# Altium schematic symbol library Caps$.SchLib: 208 symbols (part 1 of 2)
Pins are listed as number, name and electrical type; pins without a type are passive.

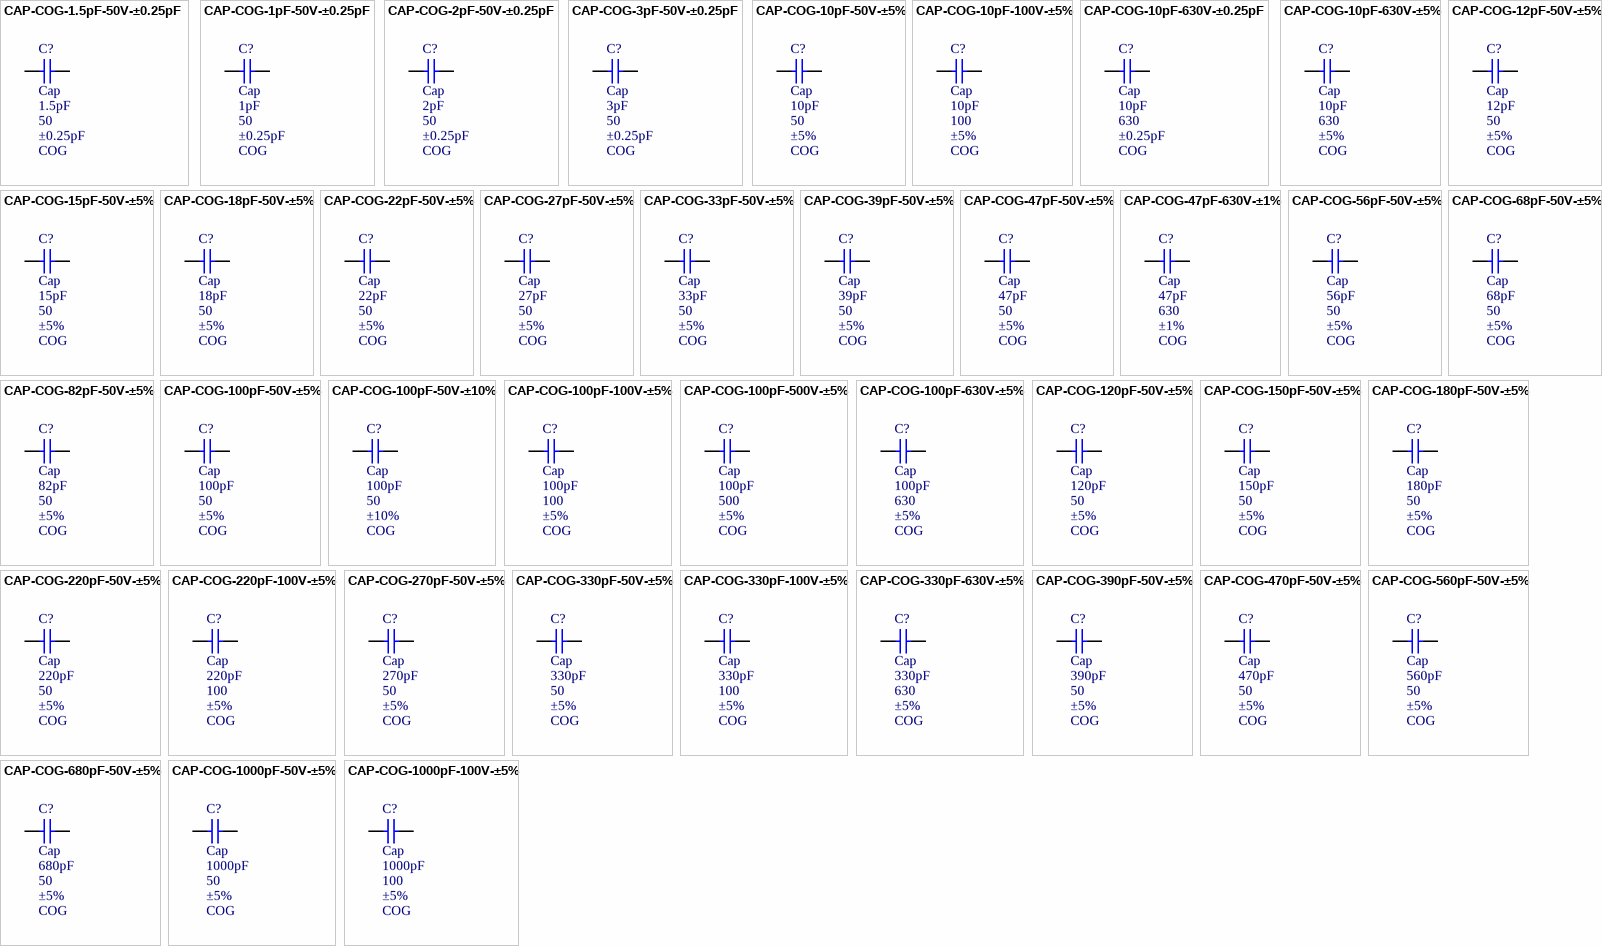
[diagram p0: symbols CAP-COG-1.5pF-50V-±0.25pF to CAP-COG-1000pF-100V-±5%]

## CAP-COG-1.5pF-50V-±0.25pF
designator C?, comment Cap  value 1.5pF  WV: 50  Tolerance: ±0.25pF  Type: COG
CAP CER 1.5pF 50v COG 0805; MPN: C0805C159C5GACTU; Name: CAP-COG-1.5pF-50V-±0.25pF; PN: 399-1105-1-ND; URL: http://www.digikey.ca/product-detail/en/C0805C159C5GACTU/399-1105-1-ND
footprint CAPC2012X09M
pins: 1, 2

## CAP-COG-1pF-50V-±0.25pF
designator C?, comment Cap  value 1pF  WV: 50  Tolerance: ±0.25pF  Type: COG
CAP CER 1pF 50v COG 0805; MPN: C0805C109C5GACTU; Name: CAP-COG-1pF-50V-±0.25pF; PN: 399-1104-1-ND; URL: http://www.digikey.ca/product-detail/en/C0805C109C5GACTU/399-1104-1-ND
footprint CAPC2012X09M
pins: 1, 2

## CAP-COG-2pF-50V-±0.25pF
designator C?, comment Cap  value 2pF  WV: 50  Tolerance: ±0.25pF  Type: COG
CAP CER 2pF 50v COG 0805; MPN: C0805C209C5GACTU; Name: CAP-COG-2pF-50V-±0.25pF; PN: 399-1106-1-ND; URL: http://www.digikey.ca/product-detail/en/C0805C209C5GACTU/399-1106-1-ND
footprint CAPC2012X09M
pins: 1, 2

## CAP-COG-3pF-50V-±0.25pF
designator C?, comment Cap  value 3pF  WV: 50  Tolerance: ±0.25pF  Type: COG
CAP CER 3pF 50v COG 0805; MPN: C0805C309C5GACTU; Name: CAP-COG-3pF-50V-±0.25pF; PN: 399-1107-1-ND; URL: http://www.digikey.ca/product-detail/en/C0805C309C5GACTU/399-1107-1-ND
footprint CAPC2012X09M
pins: 1, 2

## CAP-COG-10pF-50V-±5%
designator C?, comment Cap  value 10pF  WV: 50  Tolerance: ±5%  Type: COG
CAP CER 10pF 50v COG 0805; MPN: C0805C100J5GACTU; Name: CAP-COG-10pF-50V-±5%; PN: 399-1108-1-ND; URL: http://www.digikey.ca/product-detail/en/C0805C100J5GACTU/399-1108-1-ND
footprint CAPC2012X09M
pins: 1, 2

## CAP-COG-10pF-100V-±5%
designator C?, comment Cap  value 10pF  WV: 100  Tolerance: ±5%  Type: COG
CAP CER 10pF 100v COG 0805; MPN: C0805C100J1GACTU; Name: CAP-COG-10pF-100V-±5%; PN: 399-1109-1-ND; URL: http://www.digikey.ca/product-detail/en/C0805C100J1GACTU/399-1109-1-ND
footprint CAPC2012X09M
pins: 1, 2

## CAP-COG-10pF-630V-±0.25pF
designator C?, comment Cap  value 10pF  WV: 630  Tolerance: ±0.25pF  Type: COG
CAP CER 10pF 630v COG 0805; MPN: C0805C100CBGACTU; Name: CAP-COG-10pF-630V-±0.25pF; PN: 399-5538-1-ND; URL: http://www.digikey.ca/product-detail/en/C0805C100CBGACTU/399-5538-1-ND
footprint CAPC2012X09M
pins: 1, 2

## CAP-COG-10pF-630V-±5%
designator C?, comment Cap  value 10pF  WV: 630  Tolerance: ±5%  Type: COG
CAP CER 10pF 630v COG 0805; MPN: C0805C100JBGACTU; Name: CAP-COG-10pF-630V-±5%; PN: 399-5539-1-ND; URL: http://www.digikey.ca/product-detail/en/C0805C100JBGACTU/399-5539-1-ND
footprint CAPC2012X09M
pins: 1, 2

## CAP-COG-12pF-50V-±5%
designator C?, comment Cap  value 12pF  WV: 50  Tolerance: ±5%  Type: COG
CAP CER 12pF 50v COG 0805; MPN: C0805C120J5GACTU; Name: CAP-COG-12pF-50V-±5%; PN: 399-1110-1-ND; URL: http://www.digikey.ca/product-detail/en/C0805C120J5GACTU/399-1110-1-ND
footprint CAPC2012X09M
pins: 1, 2

## CAP-COG-15pF-50V-±5%
designator C?, comment Cap  value 15pF  WV: 50  Tolerance: ±5%  Type: COG
CAP CER 15pF 50v COG 0805; MPN: C0805C150J5GACTU; Name: CAP-COG-15pF-50V-±5%; PN: 399-1111-1-ND; URL: http://www.digikey.ca/product-detail/en/C0805C150J5GACTU/399-1111-1-ND
footprint CAPC2012X09M
pins: 1, 2

## CAP-COG-18pF-50V-±5%
designator C?, comment Cap  value 18pF  WV: 50  Tolerance: ±5%  Type: COG
CAP CER 18pF 50v COG 0805; MPN: C0805C180J5GACTU; Name: CAP-COG-18pF-50V-±5%; PN: 399-1112-1-ND; URL: http://www.digikey.ca/product-detail/en/C0805C180J5GACTU/399-1112-1-ND
footprint CAPC2012X09M
pins: 1, 2

## CAP-COG-22pF-50V-±5%
designator C?, comment Cap  value 22pF  WV: 50  Tolerance: ±5%  Type: COG
CAP CER 22pF 50v COG 0805; MPN: C0805C220J5GACTU; Name: CAP-COG-22pF-50V-±5%; PN: 399-1113-1-ND; URL: http://www.digikey.ca/product-detail/en/C0805C220J5GACTU/399-1113-1-ND
footprint CAPC2012X09M
pins: 1, 2

## CAP-COG-27pF-50V-±5%
designator C?, comment Cap  value 27pF  WV: 50  Tolerance: ±5%  Type: COG
CAP CER 27pF 50v COG 0805; MPN: C0805C270J5GACTU; Name: CAP-COG-27pF-50V-±5%; PN: 399-1114-1-ND; URL: http://www.digikey.ca/product-detail/en/C0805C270J5GACTU/399-1114-1-ND
footprint CAPC2012X09M
pins: 1, 2

## CAP-COG-33pF-50V-±5%
designator C?, comment Cap  value 33pF  WV: 50  Tolerance: ±5%  Type: COG
CAP CER 33pF 50v COG 0805; MPN: C0805C330J5GACTU; Name: CAP-COG-33pF-50V-±5%; PN: 399-1115-1-ND; URL: http://www.digikey.ca/product-detail/en/C0805C330J5GACTU/399-1115-1-ND
footprint CAPC2012X09M
pins: 1, 2

## CAP-COG-39pF-50V-±5%
designator C?, comment Cap  value 39pF  WV: 50  Tolerance: ±5%  Type: COG
CAP CER 39pF 50v COG 0805; MPN: C0805C390J5GACTU; Name: CAP-COG-39pF-50V-±5%; PN: 399-1116-1-ND; URL: http://www.digikey.ca/product-detail/en/C0805C390J5GACTU/399-1116-1-ND
footprint CAPC2012X09M
pins: 1, 2

## CAP-COG-47pF-50V-±5%
designator C?, comment Cap  value 47pF  WV: 50  Tolerance: ±5%  Type: COG
CAP CER 47pF 50v COG 0805; MPN: C0805C470J5GACTU; Name: CAP-COG-47pF-50V-±5%; PN: 399-1117-1-ND; URL: http://www.digikey.ca/product-detail/en/C0805C470J5GACTU/399-1117-1-ND
footprint CAPC2012X09M
pins: 1, 2

## CAP-COG-47pF-630V-±1%
designator C?, comment Cap  value 47pF  WV: 630  Tolerance: ±1%  Type: COG
CAP CER 47pF 630v COG 0805; MPN: C0805C470FBGACTU; Name: CAP-COG-47pF-630V-±1%; PN: 399-5537-1-ND; URL: http://www.digikey.ca/product-detail/en/C0805C470FBGACTU/399-5537-1-ND
footprint CAPC2012X09M
pins: 1, 2

## CAP-COG-56pF-50V-±5%
designator C?, comment Cap  value 56pF  WV: 50  Tolerance: ±5%  Type: COG
CAP CER 56pF 50v COG 0805; MPN: C0805C560J5GACTU; Name: CAP-COG-56pF-50V-±5%; PN: 399-1118-1-ND; URL: http://www.digikey.ca/product-detail/en/C0805C560J5GACTU/399-1118-1-ND
footprint CAPC2012X09M
pins: 1, 2

## CAP-COG-68pF-50V-±5%
designator C?, comment Cap  value 68pF  WV: 50  Tolerance: ±5%  Type: COG
CAP CER 68pF 50v COG 0805; MPN: C0805C680J5GACTU; Name: CAP-COG-68pF-50V-±5%; PN: 399-1119-1-ND; URL: http://www.digikey.ca/product-detail/en/C0805C680J5GACTU/399-1119-1-ND
footprint CAPC2012X09M
pins: 1, 2

## CAP-COG-82pF-50V-±5%
designator C?, comment Cap  value 82pF  WV: 50  Tolerance: ±5%  Type: COG
CAP CER 82pF 50v COG 0805; MPN: C0805C820J5GACTU; Name: CAP-COG-82pF-50V-±5%; PN: 399-1120-1-ND; URL: http://www.digikey.ca/product-detail/en/C0805C820J5GACTU/399-1120-1-ND
footprint CAPC2012X09M
pins: 1, 2

## CAP-COG-100pF-50V-±5%
designator C?, comment Cap  value 100pF  WV: 50  Tolerance: ±5%  Type: COG
CAP CER 100pF 50v COG 0805; MPN: C0805C101J5GACTU; Name: CAP-COG-100pF-50V-±5%; PN: 399-1122-1-ND; URL: http://www.digikey.ca/product-detail/en/C0805C101J5GACTU/399-1122-1-ND
footprint CAPC2012X09M
pins: 1, 2

## CAP-COG-100pF-50V-±10%
designator C?, comment Cap  value 100pF  WV: 50  Tolerance: ±10%  Type: COG
CAP CER 100pF 50v COG 0805; MPN: C0805C101K5GACTU; Name: CAP-COG-100pF-50V-±10%; PN: 399-1121-1-ND; URL: http://www.digikey.ca/product-detail/en/C0805C101K5GACTU/399-1121-1-ND
footprint CAPC2012X09M
pins: 1, 2

## CAP-COG-100pF-100V-±5%
designator C?, comment Cap  value 100pF  WV: 100  Tolerance: ±5%  Type: COG
CAP CER 100pF 100v COG 0805; MPN: C0805C101J1GACTU; Name: CAP-COG-100pF-100V-±5%; PN: 399-1123-1-ND; URL: http://www.digikey.ca/product-detail/en/C0805C101J1GACTU/399-1123-1-ND
footprint CAPC2012X09M
pins: 1, 2

## CAP-COG-100pF-500V-±5%
designator C?, comment Cap  value 100pF  WV: 500  Tolerance: ±5%  Type: COG
CAP CER 100pF 500v COG 0805; MPN: C0805C101JCGACTU; Name: CAP-COG-100pF-500V-±5%; PN: 399-5102-1-ND; URL: http://www.digikey.ca/product-detail/en/C0805C101JCGACTU/399-5102-1-ND
footprint CAPC2012X09M
pins: 1, 2

## CAP-COG-100pF-630V-±5%
designator C?, comment Cap  value 100pF  WV: 630  Tolerance: ±5%  Type: COG
CAP CER 100pF 630v COG 1210; MPN: C1210C101JBGACTU; Name: CAP-COG-100pF-630V-±5%; PN: 399-5546-1-ND; URL: http://www.digikey.ca/product-detail/en/C1210C101JBGACTU/399-5546-1-ND
footprint CAPC3225X25M
pins: 1, 2

## CAP-COG-120pF-50V-±5%
designator C?, comment Cap  value 120pF  WV: 50  Tolerance: ±5%  Type: COG
CAP CER 120pF 50v COG 0805; MPN: C0805C121J5GACTU; Name: CAP-COG-120pF-50V-±5%; PN: 399-1124-1-ND; URL: http://www.digikey.ca/product-detail/en/C0805C121J5GACTU/399-1124-1-ND
footprint CAPC2012X09M
pins: 1, 2

## CAP-COG-150pF-50V-±5%
designator C?, comment Cap  value 150pF  WV: 50  Tolerance: ±5%  Type: COG
CAP CER 150pF 50v COG 0805; MPN: C0805C151J5GACTU; Name: CAP-COG-150pF-50V-±5%; PN: 399-1125-1-ND; URL: http://www.digikey.ca/product-detail/en/C0805C151J5GACTU/399-1125-1-ND
footprint CAPC2012X09M
pins: 1, 2

## CAP-COG-180pF-50V-±5%
designator C?, comment Cap  value 180pF  WV: 50  Tolerance: ±5%  Type: COG
CAP CER 180pF 50v COG 0805; MPN: C0805C181J5GACTU; Name: CAP-COG-180pF-50V-±5%; PN: 399-1126-1-ND; URL: http://www.digikey.ca/product-detail/en/C0805C181J5GACTU/399-1126-1-ND
footprint CAPC2012X09M
pins: 1, 2

## CAP-COG-220pF-50V-±5%
designator C?, comment Cap  value 220pF  WV: 50  Tolerance: ±5%  Type: COG
CAP CER 220pF 50v COG 0805; MPN: C0805C221J5GACTU; Name: CAP-COG-220pF-50V-±5%; PN: 399-1127-1-ND; URL: http://www.digikey.ca/product-detail/en/C0805C221J5GACTU/399-1127-1-ND
footprint CAPC2012X09M
pins: 1, 2

## CAP-COG-220pF-100V-±5%
designator C?, comment Cap  value 220pF  WV: 100  Tolerance: ±5%  Type: COG
CAP CER 220pF 100v COG 0805; MPN: C0805C221J1GACTU; Name: CAP-COG-220pF-100V-±5%; PN: 399-1128-1-ND; URL: http://www.digikey.ca/product-detail/en/C0805C221J1GACTU/399-1128-1-ND
footprint CAPC2012X09M
pins: 1, 2

## CAP-COG-270pF-50V-±5%
designator C?, comment Cap  value 270pF  WV: 50  Tolerance: ±5%  Type: COG
CAP CER 270pF 50v COG 0805; MPN: C0805C271J5GACTU; Name: CAP-COG-270pF-50V-±5%; PN: 399-1129-1-ND; URL: http://www.digikey.ca/product-detail/en/C0805C271J5GACTU/399-1129-1-ND
footprint CAPC2012X09M
pins: 1, 2

## CAP-COG-330pF-50V-±5%
designator C?, comment Cap  value 330pF  WV: 50  Tolerance: ±5%  Type: COG
CAP CER 330pF 50v COG 0805; MPN: C0805C331J5GACTU; Name: CAP-COG-330pF-50V-±5%; PN: 399-1130-1-ND; URL: http://www.digikey.ca/product-detail/en/C0805C331J5GACTU/399-1130-1-ND
footprint CAPC2012X09M
pins: 1, 2

## CAP-COG-330pF-100V-±5%
designator C?, comment Cap  value 330pF  WV: 100  Tolerance: ±5%  Type: COG
CAP CER 330pF 100v COG 0805; MPN: C0805C331J1GACTU; Name: CAP-COG-330pF-100V-±5%; PN: 399-1131-1-ND; URL: http://www.digikey.ca/product-detail/en/C0805C331J1GACTU/399-1131-1-ND
footprint CAPC2012X09M
pins: 1, 2

## CAP-COG-330pF-630V-±5%
designator C?, comment Cap  value 330pF  WV: 630  Tolerance: ±5%  Type: COG
CAP CER 330pF 630v COG 1210; MPN: C1210C331JBGACTU; Name: CAP-COG-330pF-630V-±5%; PN: 399-5547-1-ND; URL: http://www.digikey.ca/product-detail/en/C1210C331JBGACTU/399-5547-1-ND
footprint CAPC3225X25M
pins: 1, 2

## CAP-COG-390pF-50V-±5%
designator C?, comment Cap  value 390pF  WV: 50  Tolerance: ±5%  Type: COG
CAP CER 390pF 50v COG 0805; MPN: C0805C391J5GACTU; Name: CAP-COG-390pF-50V-±5%; PN: 399-1132-1-ND; URL: http://www.digikey.ca/product-detail/en/C0805C391J5GACTU/399-1132-1-ND
footprint CAPC2012X09M
pins: 1, 2

## CAP-COG-470pF-50V-±5%
designator C?, comment Cap  value 470pF  WV: 50  Tolerance: ±5%  Type: COG
CAP CER 470pF 50v COG 0805; MPN: C0805C471J5GACTU; Name: CAP-COG-470pF-50V-±5%; PN: 399-1133-1-ND; URL: http://www.digikey.ca/product-detail/en/C0805C471J5GACTU/399-1133-1-ND
footprint CAPC2012X09M
pins: 1, 2

## CAP-COG-560pF-50V-±5%
designator C?, comment Cap  value 560pF  WV: 50  Tolerance: ±5%  Type: COG
CAP CER 560pF 50v COG 0805; MPN: C0805C561J5GACTU; Name: CAP-COG-560pF-50V-±5%; PN: 399-1134-1-ND; URL: http://www.digikey.ca/product-detail/en/C0805C561J5GACTU/399-1134-1-ND
footprint CAPC2012X09M
pins: 1, 2

## CAP-COG-680pF-50V-±5%
designator C?, comment Cap  value 680pF  WV: 50  Tolerance: ±5%  Type: COG
CAP CER 680pF 50v COG 0805; MPN: C0805C681J5GACTU; Name: CAP-COG-680pF-50V-±5%; PN: 399-1135-1-ND; URL: http://www.digikey.ca/product-detail/en/C0805C681J5GACTU/399-1135-1-ND
footprint CAPC2012X09M
pins: 1, 2

## CAP-COG-1000pF-50V-±5%
designator C?, comment Cap  value 1000pF  WV: 50  Tolerance: ±5%  Type: COG
CAP CER 1000pF 50v COG 0805; MPN: C0805C102J5GACTU; Name: CAP-COG-1000pF-50V-±5%; PN: 399-1136-1-ND; URL: http://www.digikey.ca/product-detail/en/C0805C102J5GACTU/399-1136-1-ND
footprint CAPC2012X09M
pins: 1, 2

## CAP-COG-1000pF-100V-±5%
designator C?, comment Cap  value 1000pF  WV: 100  Tolerance: ±5%  Type: COG
CAP CER 1000pF 100v COG 0805; MPN: C0805C102J1GACTU; Name: CAP-COG-1000pF-100V-±5%; PN: 399-1137-1-ND; URL: http://www.digikey.ca/product-detail/en/C0805C102J1GACTU/399-1137-1-ND
footprint CAPC2012X09M
pins: 1, 2

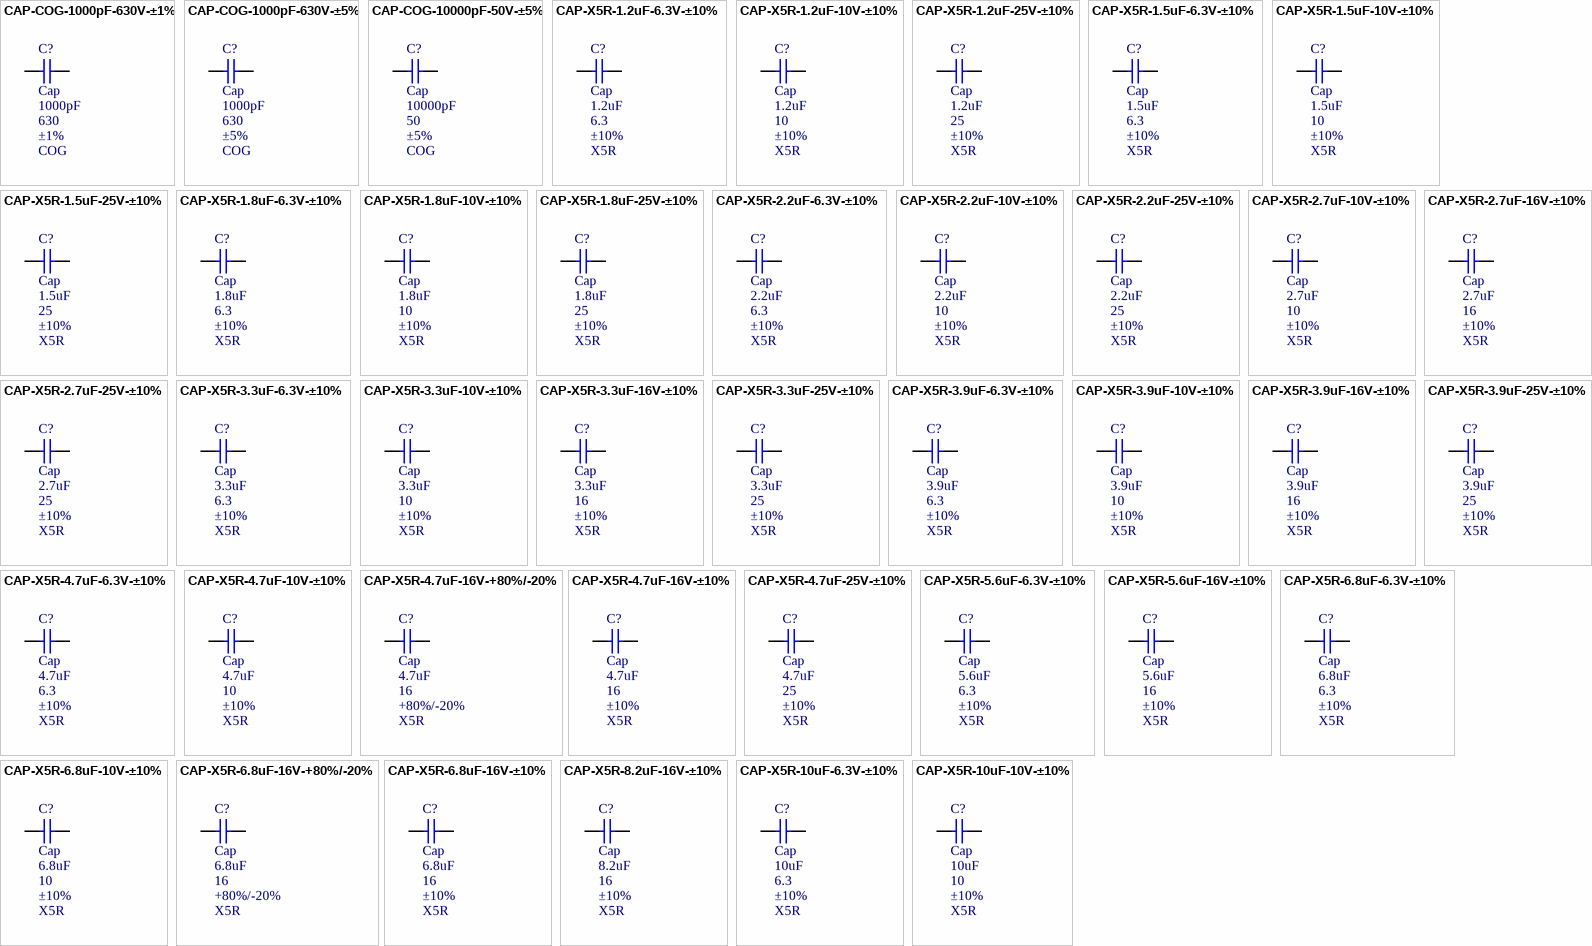
[diagram p1: symbols CAP-COG-1000pF-630V-±1% to CAP-X5R-10uF-10V-±10%]

## CAP-COG-1000pF-630V-±1%
designator C?, comment Cap  value 1000pF  WV: 630  Tolerance: ±1%  Type: COG
CAP CER 1000pF 630v COG 1210; MPN: C1210C102FBGACTU; Name: CAP-COG-1000pF-630V-±1%; PN: 399-5548-1-ND; URL: http://www.digikey.ca/product-detail/en/C1210C102FBGACTU/399-5548-1-ND
footprint CAPC3225X25M
pins: 1, 2

## CAP-COG-1000pF-630V-±5%
designator C?, comment Cap  value 1000pF  WV: 630  Tolerance: ±5%  Type: COG
CAP CER 1000pF 630v COG 1210; MPN: C1210C102JBGACTU; Name: CAP-COG-1000pF-630V-±5%; PN: 399-5549-1-ND; URL: http://www.digikey.ca/product-detail/en/C1210C102JBGACTU/399-5549-1-ND
footprint CAPC3225X25M
pins: 1, 2

## CAP-COG-10000pF-50V-±5%
designator C?, comment Cap  value 10000pF  WV: 50  Tolerance: ±5%  Type: COG
CAP CER 10000pF 50v COG 1210; MPN: C1210C103J5GACTU; Name: CAP-COG-10000pF-50V-±5%; PN: 399-1266-1-ND; URL: http://www.digikey.ca/product-detail/en/C1210C103J5GACTU/399-1266-1-ND
footprint CAPC3225X25M
pins: 1, 2

## CAP-X5R-1.2uF-6.3V-±10%
designator C?, comment Cap  value 1.2uF  WV: 6.3  Tolerance: ±10%  Type: X5R
CAP CER 1.2uF 6.3v X5R 0805; MPN: C0805C125K9PACTU; Name: CAP-X5R-1.2uF-6.3V-±10%; PN: 399-3120-1-ND; URL: http://www.digikey.ca/product-detail/en/C0805C125K9PACTU/399-3120-1-ND
footprint CAPC2012X09M
pins: 1, 2

## CAP-X5R-1.2uF-10V-±10%
designator C?, comment Cap  value 1.2uF  WV: 10  Tolerance: ±10%  Type: X5R
CAP CER 1.2uF 10v X5R 0805; MPN: C0805C125K8PACTU; Name: CAP-X5R-1.2uF-10V-±10%; PN: 399-3119-1-ND; URL: http://www.digikey.ca/product-detail/en/C0805C125K8PACTU/399-3119-1-ND
footprint CAPC2012X09M
pins: 1, 2

## CAP-X5R-1.2uF-25V-±10%
designator C?, comment Cap  value 1.2uF  WV: 25  Tolerance: ±10%  Type: X5R
CAP CER 1.2uF 25v X5R 1210; MPN: C1210C125K3PACTU; Name: CAP-X5R-1.2uF-25V-±10%; PN: 399-3077-1-ND; URL: http://www.digikey.ca/product-detail/en/C1210C125K3PACTU/399-3077-1-ND
footprint CAPC3225X25M
pins: 1, 2

## CAP-X5R-1.5uF-6.3V-±10%
designator C?, comment Cap  value 1.5uF  WV: 6.3  Tolerance: ±10%  Type: X5R
CAP CER 1.5uF 6.3v X5R 0805; MPN: C0805C155K9PACTU; Name: CAP-X5R-1.5uF-6.3V-±10%; PN: 399-3122-1-ND; URL: http://www.digikey.ca/product-detail/en/C0805C155K9PACTU/399-3122-1-ND
footprint CAPC2012X09M
pins: 1, 2

## CAP-X5R-1.5uF-10V-±10%
designator C?, comment Cap  value 1.5uF  WV: 10  Tolerance: ±10%  Type: X5R
CAP CER 1.5uF 10v X5R 0805; MPN: C0805C155K8PACTU; Name: CAP-X5R-1.5uF-10V-±10%; PN: 399-3121-1-ND; URL: http://www.digikey.ca/product-detail/en/C0805C155K8PACTU/399-3121-1-ND
footprint CAPC2012X09M
pins: 1, 2

## CAP-X5R-1.5uF-25V-±10%
designator C?, comment Cap  value 1.5uF  WV: 25  Tolerance: ±10%  Type: X5R
CAP CER 1.5uF 25v X5R 1210; MPN: C1210C155K3PACTU; Name: CAP-X5R-1.5uF-25V-±10%; PN: 399-3079-1-ND; URL: http://www.digikey.ca/product-detail/en/C1210C155K3PACTU/399-3079-1-ND
footprint CAPC3225X25M
pins: 1, 2

## CAP-X5R-1.8uF-6.3V-±10%
designator C?, comment Cap  value 1.8uF  WV: 6.3  Tolerance: ±10%  Type: X5R
CAP CER 1.8uF 6.3v X5R 0805; MPN: C0805C185K9PACTU; Name: CAP-X5R-1.8uF-6.3V-±10%; PN: 399-3124-1-ND; URL: http://www.digikey.ca/product-detail/en/C0805C185K9PACTU/399-3124-1-ND
footprint CAPC2012X09M
pins: 1, 2

## CAP-X5R-1.8uF-10V-±10%
designator C?, comment Cap  value 1.8uF  WV: 10  Tolerance: ±10%  Type: X5R
CAP CER 1.8uF 10v X5R 0805; MPN: C0805C185K8PACTU; Name: CAP-X5R-1.8uF-10V-±10%; PN: 399-3123-1-ND; URL: http://www.digikey.ca/product-detail/en/C0805C185K8PACTU/399-3123-1-ND
footprint CAPC2012X09M
pins: 1, 2

## CAP-X5R-1.8uF-25V-±10%
designator C?, comment Cap  value 1.8uF  WV: 25  Tolerance: ±10%  Type: X5R
CAP CER 1.8uF 25v X5R 1210; MPN: C1210C185K3PACTU; Name: CAP-X5R-1.8uF-25V-±10%; PN: 399-3081-1-ND; URL: http://www.digikey.ca/product-detail/en/C1210C185K3PACTU/399-3081-1-ND
footprint CAPC3225X25M
pins: 1, 2

## CAP-X5R-2.2uF-6.3V-±10%
designator C?, comment Cap  value 2.2uF  WV: 6.3  Tolerance: ±10%  Type: X5R
CAP CER 2.2uF 6.3v X5R 0805; MPN: C0805C225K9PACTU; Name: CAP-X5R-2.2uF-6.3V-±10%; PN: 399-3126-1-ND; URL: http://www.digikey.ca/product-detail/en/C0805C225K9PACTU/399-3126-1-ND
footprint CAPC2012X09M
pins: 1, 2

## CAP-X5R-2.2uF-10V-±10%
designator C?, comment Cap  value 2.2uF  WV: 10  Tolerance: ±10%  Type: X5R
CAP CER 2.2uF 10v X5R 0805; MPN: C0805C225K8PACTU; Name: CAP-X5R-2.2uF-10V-±10%; PN: 399-3125-1-ND; URL: http://www.digikey.ca/product-detail/en/C0805C225K8PACTU/399-3125-1-ND
footprint CAPC2012X09M
pins: 1, 2

## CAP-X5R-2.2uF-25V-±10%
designator C?, comment Cap  value 2.2uF  WV: 25  Tolerance: ±10%  Type: X5R
CAP CER 2.2uF 25v X5R 1210; MPN: C1210C225K3PACTU; Name: CAP-X5R-2.2uF-25V-±10%; PN: 399-3083-1-ND; URL: http://www.digikey.ca/product-detail/en/C1210C225K3PACTU/399-3083-1-ND
footprint CAPC3225X25M
pins: 1, 2

## CAP-X5R-2.7uF-10V-±10%
designator C?, comment Cap  value 2.7uF  WV: 10  Tolerance: ±10%  Type: X5R
CAP CER 2.7uF 10v X5R 0805; MPN: C0805C275K8PACTU; Name: CAP-X5R-2.7uF-10V-±10%; PN: 399-3127-1-ND; URL: http://www.digikey.ca/product-detail/en/C0805C275K8PACTU/399-3127-1-ND
footprint CAPC2012X09M
pins: 1, 2

## CAP-X5R-2.7uF-16V-±10%
designator C?, comment Cap  value 2.7uF  WV: 16  Tolerance: ±10%  Type: X5R
CAP CER 2.7uF 16v X5R 1210; MPN: C1210C275K4PACTU; Name: CAP-X5R-2.7uF-16V-±10%; PN: 399-3085-1-ND; URL: http://www.digikey.ca/product-detail/en/C1210C275K4PACTU/399-3085-1-ND
footprint CAPC3225X25M
pins: 1, 2

## CAP-X5R-2.7uF-25V-±10%
designator C?, comment Cap  value 2.7uF  WV: 25  Tolerance: ±10%  Type: X5R
CAP CER 2.7uF 25v X5R 1210; MPN: C1210C275K3PACTU; Name: CAP-X5R-2.7uF-25V-±10%; PN: 399-3143-1-ND; URL: http://www.digikey.ca/product-detail/en/C1210C275K3PACTU/399-3143-1-ND
footprint CAPC3225X25M
pins: 1, 2

## CAP-X5R-3.3uF-6.3V-±10%
designator C?, comment Cap  value 3.3uF  WV: 6.3  Tolerance: ±10%  Type: X5R
CAP CER 3.3uF 6.3v X5R 0805; MPN: C0805C335K9PACTU; Name: CAP-X5R-3.3uF-6.3V-±10%; PN: 399-3130-1-ND; URL: http://www.digikey.ca/product-detail/en/C0805C335K9PACTU/399-3130-1-ND
footprint CAPC2012X09M
pins: 1, 2

## CAP-X5R-3.3uF-10V-±10%
designator C?, comment Cap  value 3.3uF  WV: 10  Tolerance: ±10%  Type: X5R
CAP CER 3.3uF 10v X5R 0805; MPN: C0805C335K8PACTU; Name: CAP-X5R-3.3uF-10V-±10%; PN: 399-3129-1-ND; URL: http://www.digikey.ca/product-detail/en/C0805C335K8PACTU/399-3129-1-ND
footprint CAPC2012X09M
pins: 1, 2

## CAP-X5R-3.3uF-16V-±10%
designator C?, comment Cap  value 3.3uF  WV: 16  Tolerance: ±10%  Type: X5R
CAP CER 3.3uF 16v X5R 1210; MPN: C1210C335K4PACTU; Name: CAP-X5R-3.3uF-16V-±10%; PN: 399-3086-1-ND; URL: http://www.digikey.ca/product-detail/en/C1210C335K4PACTU/399-3086-1-ND
footprint CAPC3225X25M
pins: 1, 2

## CAP-X5R-3.3uF-25V-±10%
designator C?, comment Cap  value 3.3uF  WV: 25  Tolerance: ±10%  Type: X5R
CAP CER 3.3uF 25v X5R 1210; MPN: C1210C335K3PACTU; Name: CAP-X5R-3.3uF-25V-±10%; PN: 399-3144-1-ND; URL: http://www.digikey.ca/product-detail/en/C1210C335K3PACTU/399-3144-1-ND
footprint CAPC3225X25M
pins: 1, 2

## CAP-X5R-3.9uF-6.3V-±10%
designator C?, comment Cap  value 3.9uF  WV: 6.3  Tolerance: ±10%  Type: X5R
CAP CER 3.9uF 6.3v X5R 0805; MPN: C0805C395K9PACTU; Name: CAP-X5R-3.9uF-6.3V-±10%; PN: 399-3132-1-ND; URL: http://www.digikey.ca/product-detail/en/C0805C395K9PACTU/399-3132-1-ND
footprint CAPC2012X09M
pins: 1, 2

## CAP-X5R-3.9uF-10V-±10%
designator C?, comment Cap  value 3.9uF  WV: 10  Tolerance: ±10%  Type: X5R
CAP CER 3.9uF 10v X5R 0805; MPN: C0805C395K8PACTU; Name: CAP-X5R-3.9uF-10V-±10%; PN: 399-3131-1-ND; URL: http://www.digikey.ca/product-detail/en/C0805C395K8PACTU/399-3131-1-ND
footprint CAPC2012X09M
pins: 1, 2

## CAP-X5R-3.9uF-16V-±10%
designator C?, comment Cap  value 3.9uF  WV: 16  Tolerance: ±10%  Type: X5R
CAP CER 3.9uF 16v X5R 1210; MPN: C1210C395K4PACTU; Name: CAP-X5R-3.9uF-16V-±10%; PN: 399-3088-1-ND; URL: http://www.digikey.ca/product-detail/en/C1210C395K4PACTU/399-3088-1-ND
footprint CAPC3225X25M
pins: 1, 2

## CAP-X5R-3.9uF-25V-±10%
designator C?, comment Cap  value 3.9uF  WV: 25  Tolerance: ±10%  Type: X5R
CAP CER 3.9uF 25v X5R 1210; MPN: C1210C395K3PACTU; Name: CAP-X5R-3.9uF-25V-±10%; PN: 399-3145-1-ND; URL: http://www.digikey.ca/product-detail/en/C1210C395K3PACTU/399-3145-1-ND
footprint CAPC3225X25M
pins: 1, 2

## CAP-X5R-4.7uF-6.3V-±10%
designator C?, comment Cap  value 4.7uF  WV: 6.3  Tolerance: ±10%  Type: X5R
CAP CER 4.7uF 6.3v X5R 0805; MPN: C0805C475K9PACTU; Name: CAP-X5R-4.7uF-6.3V-±10%; PN: 399-3134-1-ND; URL: http://www.digikey.ca/product-detail/en/C0805C475K9PACTU/399-3134-1-ND
footprint CAPC2012X09M
pins: 1, 2

## CAP-X5R-4.7uF-10V-±10%
designator C?, comment Cap  value 4.7uF  WV: 10  Tolerance: ±10%  Type: X5R
CAP CER 4.7uF 10v X5R 0805; MPN: C0805C475K8PACTU; Name: CAP-X5R-4.7uF-10V-±10%; PN: 399-3133-1-ND; URL: http://www.digikey.ca/product-detail/en/C0805C475K8PACTU/399-3133-1-ND
footprint CAPC2012X09M
pins: 1, 2

## CAP-X5R-4.7uF-16V-+80%/-20%
designator C?, comment Cap  value 4.7uF  WV: 16  Tolerance: +80%/-20%  Type: X5R
CAP CER 4.7uF 16v X5R 1210; MPN: C1210C475Z4VACTU; Name: CAP-X5R-4.7uF-16V-+80%/-20%; PN: 399-1270-1-ND; URL: http://www.digikey.ca/product-detail/en/C1210C475Z4VACTU/399-1270-1-ND
footprint CAPC3225X25M
pins: 1, 2

## CAP-X5R-4.7uF-16V-±10%
designator C?, comment Cap  value 4.7uF  WV: 16  Tolerance: ±10%  Type: X5R
CAP CER 4.7uF 16v X5R 1210; MPN: C1210C475K4PACTU; Name: CAP-X5R-4.7uF-16V-±10%; PN: 399-3090-1-ND; URL: http://www.digikey.ca/product-detail/en/C1210C475K4PACTU/399-3090-1-ND
footprint CAPC3225X25M
pins: 1, 2

## CAP-X5R-4.7uF-25V-±10%
designator C?, comment Cap  value 4.7uF  WV: 25  Tolerance: ±10%  Type: X5R
CAP CER 4.7uF 25v X5R 0805; MPN: C0805C475K3PACTU; Name: CAP-X5R-4.7uF-25V-±10%; PN: 399-5505-1-ND; URL: http://www.digikey.ca/product-detail/en/C0805C475K3PACTU/399-5505-1-ND
footprint CAPC2012X09M
pins: 1, 2

## CAP-X5R-5.6uF-6.3V-±10%
designator C?, comment Cap  value 5.6uF  WV: 6.3  Tolerance: ±10%  Type: X5R
CAP CER 5.6uF 6.3v X5R 0805; MPN: C0805C565K9PACTU; Name: CAP-X5R-5.6uF-6.3V-±10%; PN: 399-3135-1-ND; URL: http://www.digikey.ca/product-detail/en/C0805C565K9PACTU/399-3135-1-ND
footprint CAPC2012X09M
pins: 1, 2

## CAP-X5R-5.6uF-16V-±10%
designator C?, comment Cap  value 5.6uF  WV: 16  Tolerance: ±10%  Type: X5R
CAP CER 5.6uF 16v X5R 1210; MPN: C1210C565K4PACTU; Name: CAP-X5R-5.6uF-16V-±10%; PN: 399-3147-1-ND; URL: http://www.digikey.ca/product-detail/en/C1210C565K4PACTU/399-3147-1-ND
footprint CAPC3225X25M
pins: 1, 2

## CAP-X5R-6.8uF-6.3V-±10%
designator C?, comment Cap  value 6.8uF  WV: 6.3  Tolerance: ±10%  Type: X5R
CAP CER 6.8uF 6.3v X5R 0805; MPN: C0805C685K9PACTU; Name: CAP-X5R-6.8uF-6.3V-±10%; PN: 399-3136-1-ND; URL: http://www.digikey.ca/product-detail/en/C0805C685K9PACTU/399-3136-1-ND
footprint CAPC2012X09M
pins: 1, 2

## CAP-X5R-6.8uF-10V-±10%
designator C?, comment Cap  value 6.8uF  WV: 10  Tolerance: ±10%  Type: X5R
CAP CER 6.8uF 10v X5R 1210; MPN: C1210C685K8PACTU; Name: CAP-X5R-6.8uF-10V-±10%; PN: 399-1274-1-ND; URL: http://www.digikey.ca/product-detail/en/C1210C685K8PACTU/399-1274-1-ND
footprint CAPC3225X25M
pins: 1, 2

## CAP-X5R-6.8uF-16V-+80%/-20%
designator C?, comment Cap  value 6.8uF  WV: 16  Tolerance: +80%/-20%  Type: X5R
CAP CER 6.8uF 16v X5R 1210; MPN: C1210C685Z4VACTU; Name: CAP-X5R-6.8uF-16V-+80%/-20%; PN: 399-1271-1-ND; URL: http://www.digikey.ca/product-detail/en/C1210C685Z4VACTU/399-1271-1-ND
footprint CAPC3225X25M
pins: 1, 2

## CAP-X5R-6.8uF-16V-±10%
designator C?, comment Cap  value 6.8uF  WV: 16  Tolerance: ±10%  Type: X5R
CAP CER 6.8uF 16v X5R 1210; MPN: C1210C685K4PACTU; Name: CAP-X5R-6.8uF-16V-±10%; PN: 399-1288-1-ND; URL: http://www.digikey.ca/product-detail/en/C1210C685K4PACTU/399-1288-1-ND
footprint CAPC3225X25M
pins: 1, 2

## CAP-X5R-8.2uF-16V-±10%
designator C?, comment Cap  value 8.2uF  WV: 16  Tolerance: ±10%  Type: X5R
CAP CER 8.2uF 16v X5R 1210; MPN: C1210C825K4PACTU; Name: CAP-X5R-8.2uF-16V-±10%; PN: 399-3149-1-ND; URL: http://www.digikey.ca/product-detail/en/C1210C825K4PACTU/399-3149-1-ND
footprint CAPC3225X25M
pins: 1, 2

## CAP-X5R-10uF-6.3V-±10%
designator C?, comment Cap  value 10uF  WV: 6.3  Tolerance: ±10%  Type: X5R
CAP CER 10uF 6.3v X5R 0805; MPN: C0805C106K9PACTU; Name: CAP-X5R-10uF-6.3V-±10%; PN: 399-3138-1-ND; URL: http://www.digikey.ca/product-detail/en/C0805C106K9PACTU/399-3138-1-ND
footprint CAPC2012X09M
pins: 1, 2

## CAP-X5R-10uF-10V-±10%
designator C?, comment Cap  value 10uF  WV: 10  Tolerance: ±10%  Type: X5R
CAP CER 10uF 10v X5R 0805; MPN: C0805C106K8PACTU; Name: CAP-X5R-10uF-10V-±10%; PN: 399-4925-1-ND; URL: http://www.digikey.ca/product-detail/en/C0805C106K8PACTU/399-4925-1-ND
footprint CAPC2012X09M
pins: 1, 2

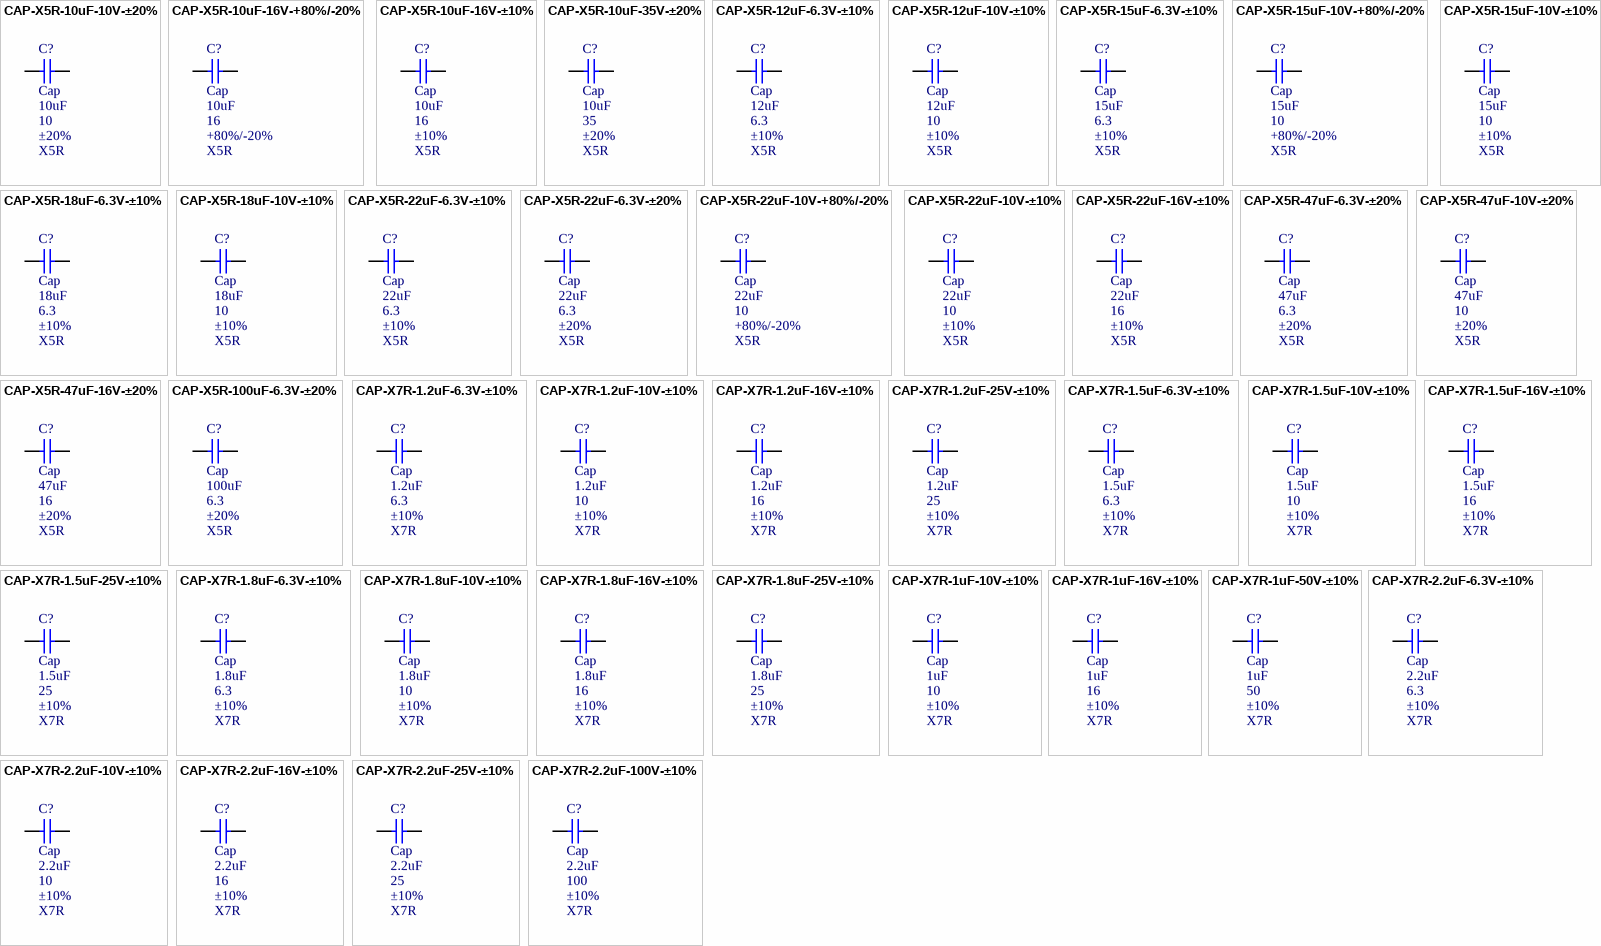
[diagram p2: symbols CAP-X5R-10uF-10V-±20% to CAP-X7R-2.2uF-100V-±10%]

## CAP-X5R-10uF-10V-±20%
designator C?, comment Cap  value 10uF  WV: 10  Tolerance: ±20%  Type: X5R
CAP CER 10uF 10v X5R 0805; MPN: C0805C106M8PACTU; Name: CAP-X5R-10uF-10V-±20%; PN: 399-4926-1-ND; URL: http://www.digikey.ca/product-detail/en/C0805C106M8PACTU/399-4926-1-ND
footprint CAPC2012X09M
pins: 1, 2

## CAP-X5R-10uF-16V-+80%/-20%
designator C?, comment Cap  value 10uF  WV: 16  Tolerance: +80%/-20%  Type: X5R
CAP CER 10uF 16v X5R 1210; MPN: C1210C106Z4VACTU; Name: CAP-X5R-10uF-16V-+80%/-20%; PN: 399-1272-1-ND; URL: http://www.digikey.ca/product-detail/en/C1210C106Z4VACTU/399-1272-1-ND
footprint CAPC3225X25M
pins: 1, 2

## CAP-X5R-10uF-16V-±10%
designator C?, comment Cap  value 10uF  WV: 16  Tolerance: ±10%  Type: X5R
CAP CER 10uF 16v X5R 1210; MPN: C1210C106K4PACTU; Name: CAP-X5R-10uF-16V-±10%; PN: 399-3150-1-ND; URL: http://www.digikey.ca/product-detail/en/C1210C106K4PACTU/399-3150-1-ND
footprint CAPC3225X25M
pins: 1, 2

## CAP-X5R-10uF-35V-±20%
designator C?, comment Cap  value 10uF  WV: 35  Tolerance: ±20%  Type: X5R
CAP CER 10uF 35v X5R 1210; MPN: C1210C106M6PACTU; Name: CAP-X5R-10uF-35V-±20%; PN: 399-5509-1-ND; URL: http://www.digikey.ca/product-detail/en/C1210C106M6PACTU/399-5509-1-ND
footprint CAPC3225X25M
pins: 1, 2

## CAP-X5R-12uF-6.3V-±10%
designator C?, comment Cap  value 12uF  WV: 6.3  Tolerance: ±10%  Type: X5R
CAP CER 12uF 6.3v X5R 1210; MPN: C1210C126K9PACTU; Name: CAP-X5R-12uF-6.3V-±10%; PN: 399-3297-1-ND; URL: http://www.digikey.ca/product-detail/en/C1210C126K9PACTU/399-3297-1-ND
footprint CAPC3225X25M
pins: 1, 2

## CAP-X5R-12uF-10V-±10%
designator C?, comment Cap  value 12uF  WV: 10  Tolerance: ±10%  Type: X5R
CAP CER 12uF 10v X5R 1210; MPN: C1210C126K8PACTU; Name: CAP-X5R-12uF-10V-±10%; PN: 399-3296-1-ND; URL: http://www.digikey.ca/product-detail/en/C1210C126K8PACTU/399-3296-1-ND
footprint CAPC3225X25M
pins: 1, 2

## CAP-X5R-15uF-6.3V-±10%
designator C?, comment Cap  value 15uF  WV: 6.3  Tolerance: ±10%  Type: X5R
CAP CER 15uF 6.3v X5R 1210; MPN: C1210C156K9PACTU; Name: CAP-X5R-15uF-6.3V-±10%; PN: 399-3299-1-ND; URL: http://www.digikey.ca/product-detail/en/C1210C156K9PACTU/399-3299-1-ND
footprint CAPC3225X25M
pins: 1, 2

## CAP-X5R-15uF-10V-+80%/-20%
designator C?, comment Cap  value 15uF  WV: 10  Tolerance: +80%/-20%  Type: X5R
CAP CER 15uF 10v X5R 1210; MPN: C1210C156Z8VACTU; Name: CAP-X5R-15uF-10V-+80%/-20%; PN: 399-1300-1-ND; URL: http://www.digikey.ca/product-detail/en/C1210C156Z8VACTU/399-1300-1-ND
footprint CAPC3225X25M
pins: 1, 2

## CAP-X5R-15uF-10V-±10%
designator C?, comment Cap  value 15uF  WV: 10  Tolerance: ±10%  Type: X5R
CAP CER 15uF 10v X5R 1210; MPN: C1210C156K8PACTU; Name: CAP-X5R-15uF-10V-±10%; PN: 399-3298-1-ND; URL: http://www.digikey.ca/product-detail/en/C1210C156K8PACTU/399-3298-1-ND
footprint CAPC3225X25M
pins: 1, 2

## CAP-X5R-18uF-6.3V-±10%
designator C?, comment Cap  value 18uF  WV: 6.3  Tolerance: ±10%  Type: X5R
CAP CER 18uF 6.3v X5R 1210; MPN: C1210C186K9PACTU; Name: CAP-X5R-18uF-6.3V-±10%; PN: 399-3301-1-ND; URL: http://www.digikey.ca/product-detail/en/C1210C186K9PACTU/399-3301-1-ND
footprint CAPC3225X25M
pins: 1, 2

## CAP-X5R-18uF-10V-±10%
designator C?, comment Cap  value 18uF  WV: 10  Tolerance: ±10%  Type: X5R
CAP CER 18uF 10v X5R 1210; MPN: C1210C186K8PACTU; Name: CAP-X5R-18uF-10V-±10%; PN: 399-3300-1-ND; URL: http://www.digikey.ca/product-detail/en/C1210C186K8PACTU/399-3300-1-ND
footprint CAPC3225X25M
pins: 1, 2

## CAP-X5R-22uF-6.3V-±10%
designator C?, comment Cap  value 22uF  WV: 6.3  Tolerance: ±10%  Type: X5R
CAP CER 22uF 6.3v X5R 1210; MPN: C1210C226K9PACTU; Name: CAP-X5R-22uF-6.3V-±10%; PN: 399-3303-1-ND; URL: http://www.digikey.ca/product-detail/en/C1210C226K9PACTU/399-3303-1-ND
footprint CAPC3225X25M
pins: 1, 2

## CAP-X5R-22uF-6.3V-±20%
designator C?, comment Cap  value 22uF  WV: 6.3  Tolerance: ±20%  Type: X5R
CAP CER 22uF 6.3v X5R 0805; MPN: C0805C226M9PACTU; Name: CAP-X5R-22uF-6.3V-±20%; PN: 399-4696-1-ND; URL: http://www.digikey.ca/product-detail/en/C0805C226M9PACTU/399-4696-1-ND
footprint CAPC2012X09M
pins: 1, 2

## CAP-X5R-22uF-10V-+80%/-20%
designator C?, comment Cap  value 22uF  WV: 10  Tolerance: +80%/-20%  Type: X5R
CAP CER 22uF 10v X5R 1210; MPN: C1210C226Z8VACTU; Name: CAP-X5R-22uF-10V-+80%/-20%; PN: 399-1301-1-ND; URL: http://www.digikey.ca/product-detail/en/C1210C226Z8VACTU/399-1301-1-ND
footprint CAPC3225X25M
pins: 1, 2

## CAP-X5R-22uF-10V-±10%
designator C?, comment Cap  value 22uF  WV: 10  Tolerance: ±10%  Type: X5R
CAP CER 22uF 10v X5R 1210; MPN: C1210C226K8PACTU; Name: CAP-X5R-22uF-10V-±10%; PN: 399-3302-1-ND; URL: http://www.digikey.ca/product-detail/en/C1210C226K8PACTU/399-3302-1-ND
footprint CAPC3225X25M
pins: 1, 2

## CAP-X5R-22uF-16V-±10%
designator C?, comment Cap  value 22uF  WV: 16  Tolerance: ±10%  Type: X5R
CAP CER 22uF 16v X5R 1210; MPN: C1210C226K4PACTU; Name: CAP-X5R-22uF-16V-±10%; PN: 399-5092-1-ND; URL: http://www.digikey.ca/product-detail/en/C1210C226K4PACTU/399-5092-1-ND
footprint CAPC3225X25M
pins: 1, 2

## CAP-X5R-47uF-6.3V-±20%
designator C?, comment Cap  value 47uF  WV: 6.3  Tolerance: ±20%  Type: X5R
CAP CER 47uF 6.3v X5R 0805; MPN: C0805C476M9PACTU; Name: CAP-X5R-47uF-6.3V-±20%; PN: 399-5506-1-ND; URL: http://www.digikey.ca/product-detail/en/C0805C476M9PACTU/399-5506-1-ND
footprint CAPC2012X09M
pins: 1, 2

## CAP-X5R-47uF-10V-±20%
designator C?, comment Cap  value 47uF  WV: 10  Tolerance: ±20%  Type: X5R
CAP CER 47uF 10v X5R 1210; MPN: C1210C476M8PACTU; Name: CAP-X5R-47uF-10V-±20%; PN: 399-5515-1-ND; URL: http://www.digikey.ca/product-detail/en/C1210C476M8PACTU/399-5515-1-ND
footprint CAPC3225X25M
pins: 1, 2

## CAP-X5R-47uF-16V-±20%
designator C?, comment Cap  value 47uF  WV: 16  Tolerance: ±20%  Type: X5R
CAP CER 47uF 16v X5R 1210; MPN: C1210C476M4PACTU; Name: CAP-X5R-47uF-16V-±20%; PN: 399-5514-1-ND; URL: http://www.digikey.ca/product-detail/en/C1210C476M4PACTU/399-5514-1-ND
footprint CAPC3225X25M
pins: 1, 2

## CAP-X5R-100uF-6.3V-±20%
designator C?, comment Cap  value 100uF  WV: 6.3  Tolerance: ±20%  Type: X5R
CAP CER 100uF 6.3v X5R 1210; MPN: C1210C107M9PACTU; Name: CAP-X5R-100uF-6.3V-±20%; PN: 399-4697-1-ND; URL: http://www.digikey.ca/product-detail/en/C1210C107M9PACTU/399-4697-1-ND
footprint CAPC3225X25M
pins: 1, 2

## CAP-X7R-1.2uF-6.3V-±10%
designator C?, comment Cap  value 1.2uF  WV: 6.3  Tolerance: ±10%  Type: X7R
CAP CER 1.2uF 6.3v X7R 0805; MPN: C0805C125K9RACTU; Name: CAP-X7R-1.2uF-6.3V-±10%; PN: 399-4929-1-ND; URL: http://www.digikey.ca/product-detail/en/C0805C125K9RACTU/399-4929-1-ND
footprint CAPC2012X09M
pins: 1, 2

## CAP-X7R-1.2uF-10V-±10%
designator C?, comment Cap  value 1.2uF  WV: 10  Tolerance: ±10%  Type: X7R
CAP CER 1.2uF 10v X7R 0805; MPN: C0805C125K8RACTU; Name: CAP-X7R-1.2uF-10V-±10%; PN: 399-4928-1-ND; URL: http://www.digikey.ca/product-detail/en/C0805C125K8RACTU/399-4928-1-ND
footprint CAPC2012X09M
pins: 1, 2

## CAP-X7R-1.2uF-16V-±10%
designator C?, comment Cap  value 1.2uF  WV: 16  Tolerance: ±10%  Type: X7R
CAP CER 1.2uF 16v X7R 0805; MPN: C0805C125K4RACTU; Name: CAP-X7R-1.2uF-16V-±10%; PN: 399-4927-1-ND; URL: http://www.digikey.ca/product-detail/en/C0805C125K4RACTU/399-4927-1-ND
footprint CAPC2012X09M
pins: 1, 2

## CAP-X7R-1.2uF-25V-±10%
designator C?, comment Cap  value 1.2uF  WV: 25  Tolerance: ±10%  Type: X7R
CAP CER 1.2uF 25v X7R 1210; MPN: C1210C125K3RACTU; Name: CAP-X7R-1.2uF-25V-±10%; PN: 399-3078-1-ND; URL: http://www.digikey.ca/product-detail/en/C1210C125K3RACTU/399-3078-1-ND
footprint CAPC3225X25M
pins: 1, 2

## CAP-X7R-1.5uF-6.3V-±10%
designator C?, comment Cap  value 1.5uF  WV: 6.3  Tolerance: ±10%  Type: X7R
CAP CER 1.5uF 6.3v X7R 0805; MPN: C0805C155K9RACTU; Name: CAP-X7R-1.5uF-6.3V-±10%; PN: 399-4932-1-ND; URL: http://www.digikey.ca/product-detail/en/C0805C155K9RACTU/399-4932-1-ND
footprint CAPC2012X09M
pins: 1, 2

## CAP-X7R-1.5uF-10V-±10%
designator C?, comment Cap  value 1.5uF  WV: 10  Tolerance: ±10%  Type: X7R
CAP CER 1.5uF 10v X7R 0805; MPN: C0805C155K8RACTU; Name: CAP-X7R-1.5uF-10V-±10%; PN: 399-4931-1-ND; URL: http://www.digikey.ca/product-detail/en/C0805C155K8RACTU/399-4931-1-ND
footprint CAPC2012X09M
pins: 1, 2

## CAP-X7R-1.5uF-16V-±10%
designator C?, comment Cap  value 1.5uF  WV: 16  Tolerance: ±10%  Type: X7R
CAP CER 1.5uF 16v X7R 0805; MPN: C0805C155K4RACTU; Name: CAP-X7R-1.5uF-16V-±10%; PN: 399-4930-1-ND; URL: http://www.digikey.ca/product-detail/en/C0805C155K4RACTU/399-4930-1-ND
footprint CAPC2012X09M
pins: 1, 2

## CAP-X7R-1.5uF-25V-±10%
designator C?, comment Cap  value 1.5uF  WV: 25  Tolerance: ±10%  Type: X7R
CAP CER 1.5uF 25v X7R 1210; MPN: C1210C155K3RACTU; Name: CAP-X7R-1.5uF-25V-±10%; PN: 399-3080-1-ND; URL: http://www.digikey.ca/product-detail/en/C1210C155K3RACTU/399-3080-1-ND
footprint CAPC3225X25M
pins: 1, 2

## CAP-X7R-1.8uF-6.3V-±10%
designator C?, comment Cap  value 1.8uF  WV: 6.3  Tolerance: ±10%  Type: X7R
CAP CER 1.8uF 6.3v X7R 0805; MPN: C0805C185K9RACTU; Name: CAP-X7R-1.8uF-6.3V-±10%; PN: 399-4935-1-ND; URL: http://www.digikey.ca/product-detail/en/C0805C185K9RACTU/399-4935-1-ND
footprint CAPC2012X09M
pins: 1, 2

## CAP-X7R-1.8uF-10V-±10%
designator C?, comment Cap  value 1.8uF  WV: 10  Tolerance: ±10%  Type: X7R
CAP CER 1.8uF 10v X7R 0805; MPN: C0805C185K8RACTU; Name: CAP-X7R-1.8uF-10V-±10%; PN: 399-4934-1-ND; URL: http://www.digikey.ca/product-detail/en/C0805C185K8RACTU/399-4934-1-ND
footprint CAPC2012X09M
pins: 1, 2

## CAP-X7R-1.8uF-16V-±10%
designator C?, comment Cap  value 1.8uF  WV: 16  Tolerance: ±10%  Type: X7R
CAP CER 1.8uF 16v X7R 0805; MPN: C0805C185K4RACTU; Name: CAP-X7R-1.8uF-16V-±10%; PN: 399-4933-1-ND; URL: http://www.digikey.ca/product-detail/en/C0805C185K4RACTU/399-4933-1-ND
footprint CAPC2012X09M
pins: 1, 2

## CAP-X7R-1.8uF-25V-±10%
designator C?, comment Cap  value 1.8uF  WV: 25  Tolerance: ±10%  Type: X7R
CAP CER 1.8uF 25v X7R 1210; MPN: C1210C185K3RACTU; Name: CAP-X7R-1.8uF-25V-±10%; PN: 399-3082-1-ND; URL: http://www.digikey.ca/product-detail/en/C1210C185K3RACTU/399-3082-1-ND
footprint CAPC3225X25M
pins: 1, 2

## CAP-X7R-1uF-10V-±10%
designator C?, comment Cap  value 1uF  WV: 10  Tolerance: ±10%  Type: X7R
CAP CER 1uF 10v X7R 0805; MPN: C0805C105K8RACTU; Name: CAP-X7R-1uF-10V-±10%; PN: 399-1172-1-ND; URL: http://www.digikey.ca/product-detail/en/C0805C105K8RACTU/399-1172-1-ND
footprint CAPC2012X09M
pins: 1, 2

## CAP-X7R-1uF-16V-±10%
designator C?, comment Cap  value 1uF  WV: 16  Tolerance: ±10%  Type: X7R
CAP CER 1uF 16v X7R 0805; MPN: C0805C105K4RACTU; Name: CAP-X7R-1uF-16V-±10%; PN: 399-1284-1-ND; URL: http://www.digikey.ca/product-detail/en/C0805C105K4RACTU/399-1284-1-ND
footprint CAPC2012X09M
pins: 1, 2

## CAP-X7R-1uF-50V-±10%
designator C?, comment Cap  value 1uF  WV: 50  Tolerance: ±10%  Type: X7R
CAP CER 1uF 50v X7R 1210; MPN: C1210C105K5RACTU; Name: CAP-X7R-1uF-50V-±10%; PN: 399-3076-1-ND; URL: http://www.digikey.ca/product-detail/en/C1210C105K5RACTU/399-3076-1-ND
footprint CAPC3225X25M
pins: 1, 2

## CAP-X7R-2.2uF-6.3V-±10%
designator C?, comment Cap  value 2.2uF  WV: 6.3  Tolerance: ±10%  Type: X7R
CAP CER 2.2uF 6.3v X7R 0805; MPN: C0805C225K9RACTU; Name: CAP-X7R-2.2uF-6.3V-±10%; PN: 399-4936-1-ND; URL: http://www.digikey.ca/product-detail/en/C0805C225K9RACTU/399-4936-1-ND
footprint CAPC2012X09M
pins: 1, 2

## CAP-X7R-2.2uF-10V-±10%
designator C?, comment Cap  value 2.2uF  WV: 10  Tolerance: ±10%  Type: X7R
CAP CER 2.2uF 10v X7R 0805; MPN: C0805C225K8RACTU; Name: CAP-X7R-2.2uF-10V-±10%; PN: 399-3522-1-ND; URL: http://www.digikey.ca/product-detail/en/C0805C225K8RACTU/399-3522-1-ND
footprint CAPC2012X09M
pins: 1, 2

## CAP-X7R-2.2uF-16V-±10%
designator C?, comment Cap  value 2.2uF  WV: 16  Tolerance: ±10%  Type: X7R
CAP CER 2.2uF 16v X7R 0805; MPN: C0805C225K4RACTU; Name: CAP-X7R-2.2uF-16V-±10%; PN: 399-3523-1-ND; URL: http://www.digikey.ca/product-detail/en/C0805C225K4RACTU/399-3523-1-ND
footprint CAPC2012X09M
pins: 1, 2

## CAP-X7R-2.2uF-25V-±10%
designator C?, comment Cap  value 2.2uF  WV: 25  Tolerance: ±10%  Type: X7R
CAP CER 2.2uF 25v X7R 1210; MPN: C1210C225K3RACTU; Name: CAP-X7R-2.2uF-25V-±10%; PN: 399-3084-1-ND; URL: http://www.digikey.ca/product-detail/en/C1210C225K3RACTU/399-3084-1-ND
footprint CAPC3225X25M
pins: 1, 2

## CAP-X7R-2.2uF-100V-±10%
designator C?, comment Cap  value 2.2uF  WV: 100  Tolerance: ±10%  Type: X7R
CAP CER 2.2uF 100v X7R 1210; MPN: C1210C225K1RACTU; Name: CAP-X7R-2.2uF-100V-±10%; PN: 399-5511-1-ND; URL: http://www.digikey.ca/product-detail/en/C1210C225K1RACTU/399-5511-1-ND
footprint CAPC3225X25M
pins: 1, 2

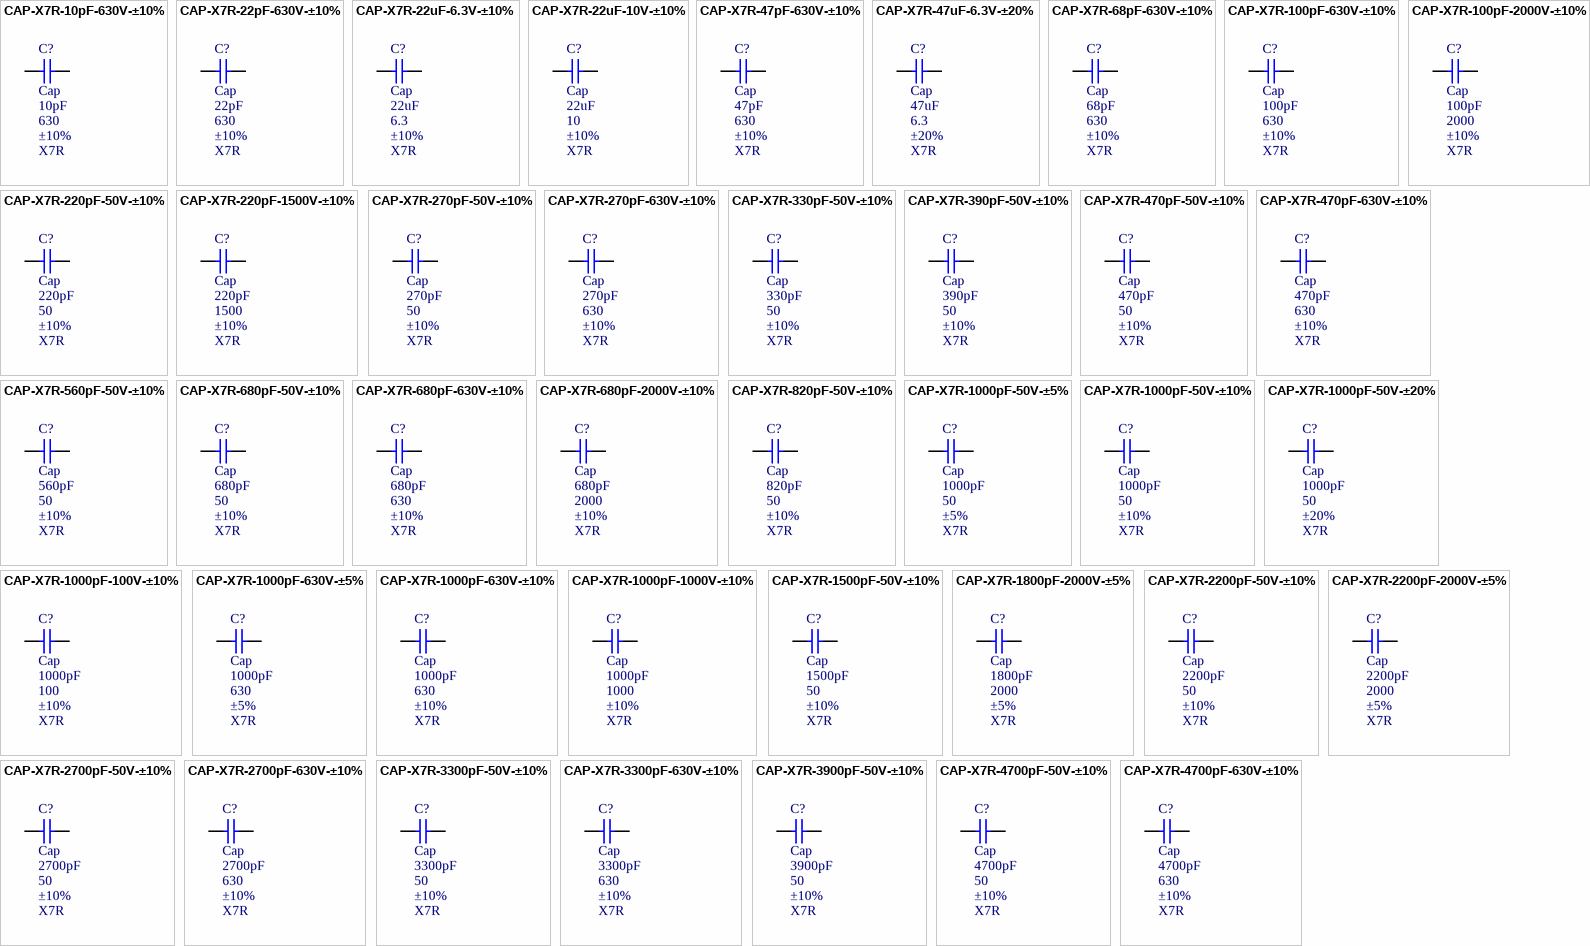
[diagram p3: symbols CAP-X7R-10pF-630V-±10% to CAP-X7R-4700pF-630V-±10%]

## CAP-X7R-10pF-630V-±10%
designator C?, comment Cap  value 10pF  WV: 630  Tolerance: ±10%  Type: X7R
CAP CER 10pF 630v X7R 0805; MPN: C0805C100KBRACTU; Name: CAP-X7R-10pF-630V-±10%; PN: 399-5567-1-ND; URL: http://www.digikey.ca/product-detail/en/C0805C100KBRACTU/399-5567-1-ND
footprint CAPC2012X09M
pins: 1, 2

## CAP-X7R-22pF-630V-±10%
designator C?, comment Cap  value 22pF  WV: 630  Tolerance: ±10%  Type: X7R
CAP CER 22pF 630v X7R 0805; MPN: C0805C220KBRACTU; Name: CAP-X7R-22pF-630V-±10%; PN: 399-5568-1-ND; URL: http://www.digikey.ca/product-detail/en/C0805C220KBRACTU/399-5568-1-ND
footprint CAPC2012X09M
pins: 1, 2

## CAP-X7R-22uF-6.3V-±10%
designator C?, comment Cap  value 22uF  WV: 6.3  Tolerance: ±10%  Type: X7R
CAP CER 22uF 6.3v X7R 1210; MPN: C1210C226K9RACTU; Name: CAP-X7R-22uF-6.3V-±10%; PN: 399-5512-1-ND; URL: http://www.digikey.ca/product-detail/en/C1210C226K9RACTU/399-5512-1-ND
footprint CAPC3225X25M
pins: 1, 2

## CAP-X7R-22uF-10V-±10%
designator C?, comment Cap  value 22uF  WV: 10  Tolerance: ±10%  Type: X7R
CAP CER 22uF 10v X7R 1210; MPN: C1210C226K8RACTU; Name: CAP-X7R-22uF-10V-±10%; PN: 399-5513-1-ND; URL: http://www.digikey.ca/product-detail/en/C1210C226K8RACTU/399-5513-1-ND
footprint CAPC3225X25M
pins: 1, 2

## CAP-X7R-47pF-630V-±10%
designator C?, comment Cap  value 47pF  WV: 630  Tolerance: ±10%  Type: X7R
CAP CER 47pF 630v X7R 0805; MPN: C0805C470KBRACTU; Name: CAP-X7R-47pF-630V-±10%; PN: 399-5569-1-ND; URL: http://www.digikey.ca/product-detail/en/C0805C470KBRACTU/399-5569-1-ND
footprint CAPC2012X09M
pins: 1, 2

## CAP-X7R-47uF-6.3V-±20%
designator C?, comment Cap  value 47uF  WV: 6.3  Tolerance: ±20%  Type: X7R
CAP CER 47uF 6.3v X7R 1210; MPN: C1210C476M9RACTU; Name: CAP-X7R-47uF-6.3V-±20%; PN: 399-5516-1-ND; URL: http://www.digikey.ca/product-detail/en/C1210C476M9RACTU/399-5516-1-ND
footprint CAPC3225X25M
pins: 1, 2

## CAP-X7R-68pF-630V-±10%
designator C?, comment Cap  value 68pF  WV: 630  Tolerance: ±10%  Type: X7R
CAP CER 68pF 630v X7R 0805; MPN: C0805C680KBRACTU; Name: CAP-X7R-68pF-630V-±10%; PN: 399-5570-1-ND; URL: http://www.digikey.ca/product-detail/en/C0805C680KBRACTU/399-5570-1-ND
footprint CAPC2012X09M
pins: 1, 2

## CAP-X7R-100pF-630V-±10%
designator C?, comment Cap  value 100pF  WV: 630  Tolerance: ±10%  Type: X7R
CAP CER 100pF 630v X7R 0805; MPN: C0805C101KBRACTU; Name: CAP-X7R-100pF-630V-±10%; PN: 399-5571-1-ND; URL: http://www.digikey.ca/product-detail/en/C0805C101KBRACTU/399-5571-1-ND
footprint CAPC2012X09M
pins: 1, 2

## CAP-X7R-100pF-2000V-±10%
designator C?, comment Cap  value 100pF  WV: 2000  Tolerance: ±10%  Type: X7R
CAP CER 100pF 2000v X7R 1210; MPN: C1210C101KGRACTU; Name: CAP-X7R-100pF-2000V-±10%; PN: 399-3439-1-ND; URL: http://www.digikey.ca/product-detail/en/C1210C101KGRACTU/399-3439-1-ND
footprint CAPC3225X25M
pins: 1, 2

## CAP-X7R-220pF-50V-±10%
designator C?, comment Cap  value 220pF  WV: 50  Tolerance: ±10%  Type: X7R
CAP CER 220pF 50v X7R 0805; MPN: C0805C221K5RACTU; Name: CAP-X7R-220pF-50V-±10%; PN: 399-1138-1-ND; URL: http://www.digikey.ca/product-detail/en/C0805C221K5RACTU/399-1138-1-ND
footprint CAPC2012X09M
pins: 1, 2

## CAP-X7R-220pF-1500V-±10%
designator C?, comment Cap  value 220pF  WV: 1500  Tolerance: ±10%  Type: X7R
CAP CER 220pF 1500v X7R 1210; MPN: C1210C221KFRACTU; Name: CAP-X7R-220pF-1500V-±10%; PN: 399-3440-1-ND; URL: http://www.digikey.ca/product-detail/en/C1210C221KFRACTU/399-3440-1-ND
footprint CAPC3225X25M
pins: 1, 2

## CAP-X7R-270pF-50V-±10%
designator C?, comment Cap  value 270pF  WV: 50  Tolerance: ±10%  Type: X7R
CAP CER 270pF 50v X7R 0805; MPN: C0805C271K5RACTU; Name: CAP-X7R-270pF-50V-±10%; PN: 399-1139-1-ND; URL: http://www.digikey.ca/product-detail/en/C0805C271K5RACTU/399-1139-1-ND
footprint CAPC2012X09M
pins: 1, 2

## CAP-X7R-270pF-630V-±10%
designator C?, comment Cap  value 270pF  WV: 630  Tolerance: ±10%  Type: X7R
CAP CER 270pF 630v X7R 0805; MPN: C0805C271KBRACTU; Name: CAP-X7R-270pF-630V-±10%; PN: 399-5572-1-ND; URL: http://www.digikey.ca/product-detail/en/C0805C271KBRACTU/399-5572-1-ND
footprint CAPC2012X09M
pins: 1, 2

## CAP-X7R-330pF-50V-±10%
designator C?, comment Cap  value 330pF  WV: 50  Tolerance: ±10%  Type: X7R
CAP CER 330pF 50v X7R 0805; MPN: C0805C331K5RACTU; Name: CAP-X7R-330pF-50V-±10%; PN: 399-1140-1-ND; URL: http://www.digikey.ca/product-detail/en/C0805C331K5RACTU/399-1140-1-ND
footprint CAPC2012X09M
pins: 1, 2

## CAP-X7R-390pF-50V-±10%
designator C?, comment Cap  value 390pF  WV: 50  Tolerance: ±10%  Type: X7R
CAP CER 390pF 50v X7R 0805; MPN: C0805C391K5RACTU; Name: CAP-X7R-390pF-50V-±10%; PN: 399-1141-1-ND; URL: http://www.digikey.ca/product-detail/en/C0805C391K5RACTU/399-1141-1-ND
footprint CAPC2012X09M
pins: 1, 2

## CAP-X7R-470pF-50V-±10%
designator C?, comment Cap  value 470pF  WV: 50  Tolerance: ±10%  Type: X7R
CAP CER 470pF 50v X7R 0805; MPN: C0805C471K5RACTU; Name: CAP-X7R-470pF-50V-±10%; PN: 399-1142-1-ND; URL: http://www.digikey.ca/product-detail/en/C0805C471K5RACTU/399-1142-1-ND
footprint CAPC2012X09M
pins: 1, 2

## CAP-X7R-470pF-630V-±10%
designator C?, comment Cap  value 470pF  WV: 630  Tolerance: ±10%  Type: X7R
CAP CER 470pF 630v X7R 1210; MPN: C1210C471KBRACTU; Name: CAP-X7R-470pF-630V-±10%; PN: 399-5591-1-ND; URL: http://www.digikey.ca/product-detail/en/C1210C471KBRACTU/399-5591-1-ND
footprint CAPC3225X25M
pins: 1, 2

## CAP-X7R-560pF-50V-±10%
designator C?, comment Cap  value 560pF  WV: 50  Tolerance: ±10%  Type: X7R
CAP CER 560pF 50v X7R 0805; MPN: C0805C561K5RACTU; Name: CAP-X7R-560pF-50V-±10%; PN: 399-1143-1-ND; URL: http://www.digikey.ca/product-detail/en/C0805C561K5RACTU/399-1143-1-ND
footprint CAPC2012X09M
pins: 1, 2

## CAP-X7R-680pF-50V-±10%
designator C?, comment Cap  value 680pF  WV: 50  Tolerance: ±10%  Type: X7R
CAP CER 680pF 50v X7R 0805; MPN: C0805C681K5RACTU; Name: CAP-X7R-680pF-50V-±10%; PN: 399-1144-1-ND; URL: http://www.digikey.ca/product-detail/en/C0805C681K5RACTU/399-1144-1-ND
footprint CAPC2012X09M
pins: 1, 2

## CAP-X7R-680pF-630V-±10%
designator C?, comment Cap  value 680pF  WV: 630  Tolerance: ±10%  Type: X7R
CAP CER 680pF 630v X7R 0805; MPN: C0805C681KBRACTU; Name: CAP-X7R-680pF-630V-±10%; PN: 399-5573-1-ND; URL: http://www.digikey.ca/product-detail/en/C0805C681KBRACTU/399-5573-1-ND
footprint CAPC2012X09M
pins: 1, 2

## CAP-X7R-680pF-2000V-±10%
designator C?, comment Cap  value 680pF  WV: 2000  Tolerance: ±10%  Type: X7R
CAP CER 680pF 2000v X7R 1210; MPN: C1210C681KGRACTU; Name: CAP-X7R-680pF-2000V-±10%; PN: 399-3441-1-ND; URL: http://www.digikey.ca/product-detail/en/C1210C681KGRACTU/399-3441-1-ND
footprint CAPC3225X25M
pins: 1, 2

## CAP-X7R-820pF-50V-±10%
designator C?, comment Cap  value 820pF  WV: 50  Tolerance: ±10%  Type: X7R
CAP CER 820pF 50v X7R 0805; MPN: C0805C821K5RACTU; Name: CAP-X7R-820pF-50V-±10%; PN: 399-1145-1-ND; URL: http://www.digikey.ca/product-detail/en/C0805C821K5RACTU/399-1145-1-ND
footprint CAPC2012X09M
pins: 1, 2

## CAP-X7R-1000pF-50V-±5%
designator C?, comment Cap  value 1000pF  WV: 50  Tolerance: ±5%  Type: X7R
CAP CER 1000pF 50v X7R 0805; MPN: C0805C102J5RACTU; Name: CAP-X7R-1000pF-50V-±5%; PN: 399-1149-1-ND; URL: http://www.digikey.ca/product-detail/en/C0805C102J5RACTU/399-1149-1-ND
footprint CAPC2012X09M
pins: 1, 2

## CAP-X7R-1000pF-50V-±10%
designator C?, comment Cap  value 1000pF  WV: 50  Tolerance: ±10%  Type: X7R
CAP CER 1000pF 50v X7R 0805; MPN: C0805C102K5RACTU; Name: CAP-X7R-1000pF-50V-±10%; PN: 399-1147-1-ND; URL: http://www.digikey.ca/product-detail/en/C0805C102K5RACTU/399-1147-1-ND
footprint CAPC2012X09M
pins: 1, 2

## CAP-X7R-1000pF-50V-±20%
designator C?, comment Cap  value 1000pF  WV: 50  Tolerance: ±20%  Type: X7R
CAP CER 1000pF 50v X7R 0805; MPN: C0805C102M5RACTU; Name: CAP-X7R-1000pF-50V-±20%; PN: 399-1146-1-ND; URL: http://www.digikey.ca/product-detail/en/C0805C102M5RACTU/399-1146-1-ND
footprint CAPC2012X09M
pins: 1, 2

## CAP-X7R-1000pF-100V-±10%
designator C?, comment Cap  value 1000pF  WV: 100  Tolerance: ±10%  Type: X7R
CAP CER 1000pF 100v X7R 0805; MPN: C0805C102K1RACTU; Name: CAP-X7R-1000pF-100V-±10%; PN: 399-1148-1-ND; URL: http://www.digikey.ca/product-detail/en/C0805C102K1RACTU/399-1148-1-ND
footprint CAPC2012X09M
pins: 1, 2

## CAP-X7R-1000pF-630V-±5%
designator C?, comment Cap  value 1000pF  WV: 630  Tolerance: ±5%  Type: X7R
CAP CER 1000pF 630v X7R 0805; MPN: C0805C102JBRACTU; Name: CAP-X7R-1000pF-630V-±5%; PN: 399-5574-1-ND; URL: http://www.digikey.ca/product-detail/en/C0805C102JBRACTU/399-5574-1-ND
footprint CAPC2012X09M
pins: 1, 2

## CAP-X7R-1000pF-630V-±10%
designator C?, comment Cap  value 1000pF  WV: 630  Tolerance: ±10%  Type: X7R
CAP CER 1000pF 630v X7R 0805; MPN: C0805C102KBRACTU; Name: CAP-X7R-1000pF-630V-±10%; PN: 399-5575-1-ND; URL: http://www.digikey.ca/product-detail/en/C0805C102KBRACTU/399-5575-1-ND
footprint CAPC2012X09M
pins: 1, 2

## CAP-X7R-1000pF-1000V-±10%
designator C?, comment Cap  value 1000pF  WV: 1000  Tolerance: ±10%  Type: X7R
CAP CER 1000pF 1000v X7R 0805; MPN: C0805C102KDRACTU; Name: CAP-X7R-1000pF-1000V-±10%; PN: 399-4818-1-ND; URL: http://www.digikey.ca/product-detail/en/C0805C102KDRACTU/399-4818-1-ND
footprint CAPC2012X09M
pins: 1, 2

## CAP-X7R-1500pF-50V-±10%
designator C?, comment Cap  value 1500pF  WV: 50  Tolerance: ±10%  Type: X7R
CAP CER 1500pF 50v X7R 0805; MPN: C0805C152K5RACTU; Name: CAP-X7R-1500pF-50V-±10%; PN: 399-1150-1-ND; URL: http://www.digikey.ca/product-detail/en/C0805C152K5RACTU/399-1150-1-ND
footprint CAPC2012X09M
pins: 1, 2

## CAP-X7R-1800pF-2000V-±5%
designator C?, comment Cap  value 1800pF  WV: 2000  Tolerance: ±5%  Type: X7R
CAP CER 1800pF 2000v X7R 1210; MPN: C1210C182JGRACTU; Name: CAP-X7R-1800pF-2000V-±5%; PN: 399-4821-1-ND; URL: http://www.digikey.ca/product-detail/en/C1210C182JGRACTU/399-4821-1-ND
footprint CAPC3225X25M
pins: 1, 2

## CAP-X7R-2200pF-50V-±10%
designator C?, comment Cap  value 2200pF  WV: 50  Tolerance: ±10%  Type: X7R
CAP CER 2200pF 50v X7R 0805; MPN: C0805C222K5RACTU; Name: CAP-X7R-2200pF-50V-±10%; PN: 399-1151-1-ND; URL: http://www.digikey.ca/product-detail/en/C0805C222K5RACTU/399-1151-1-ND
footprint CAPC2012X09M
pins: 1, 2

## CAP-X7R-2200pF-2000V-±5%
designator C?, comment Cap  value 2200pF  WV: 2000  Tolerance: ±5%  Type: X7R
CAP CER 2200pF 2000v X7R 1210; MPN: C1210C222JGRACTU; Name: CAP-X7R-2200pF-2000V-±5%; PN: 399-4822-1-ND; URL: http://www.digikey.ca/product-detail/en/C1210C222JGRACTU/399-4822-1-ND
footprint CAPC3225X25M
pins: 1, 2

## CAP-X7R-2700pF-50V-±10%
designator C?, comment Cap  value 2700pF  WV: 50  Tolerance: ±10%  Type: X7R
CAP CER 2700pF 50v X7R 0805; MPN: C0805C272K5RACTU; Name: CAP-X7R-2700pF-50V-±10%; PN: 399-1152-1-ND; URL: http://www.digikey.ca/product-detail/en/C0805C272K5RACTU/399-1152-1-ND
footprint CAPC2012X09M
pins: 1, 2

## CAP-X7R-2700pF-630V-±10%
designator C?, comment Cap  value 2700pF  WV: 630  Tolerance: ±10%  Type: X7R
CAP CER 2700pF 630v X7R 1210; MPN: C1210C272KBRACTU; Name: CAP-X7R-2700pF-630V-±10%; PN: 399-5594-1-ND; URL: http://www.digikey.ca/product-detail/en/C1210C272KBRACTU/399-5594-1-ND
footprint CAPC3225X25M
pins: 1, 2

## CAP-X7R-3300pF-50V-±10%
designator C?, comment Cap  value 3300pF  WV: 50  Tolerance: ±10%  Type: X7R
CAP CER 3300pF 50v X7R 0805; MPN: C0805C332K5RACTU; Name: CAP-X7R-3300pF-50V-±10%; PN: 399-1153-1-ND; URL: http://www.digikey.ca/product-detail/en/C0805C332K5RACTU/399-1153-1-ND
footprint CAPC2012X09M
pins: 1, 2

## CAP-X7R-3300pF-630V-±10%
designator C?, comment Cap  value 3300pF  WV: 630  Tolerance: ±10%  Type: X7R
CAP CER 3300pF 630v X7R 0805; MPN: C0805C332KBRACTU; Name: CAP-X7R-3300pF-630V-±10%; PN: 399-5576-1-ND; URL: http://www.digikey.ca/product-detail/en/C0805C332KBRACTU/399-5576-1-ND
footprint CAPC2012X09M
pins: 1, 2